# Altium footprint library Gateway PcbLib.PcbLib: 1 footprints
Each footprint in its own frame and in the unit in brackets; x right, y up, seen from the top. Pads: shape width x height; smd on the part's side, far side on the other; paste and mask are expansions set on the pad; w line width, h text height; cw(c..) or ccw(c..) is an arc to the next point about the centre after c.
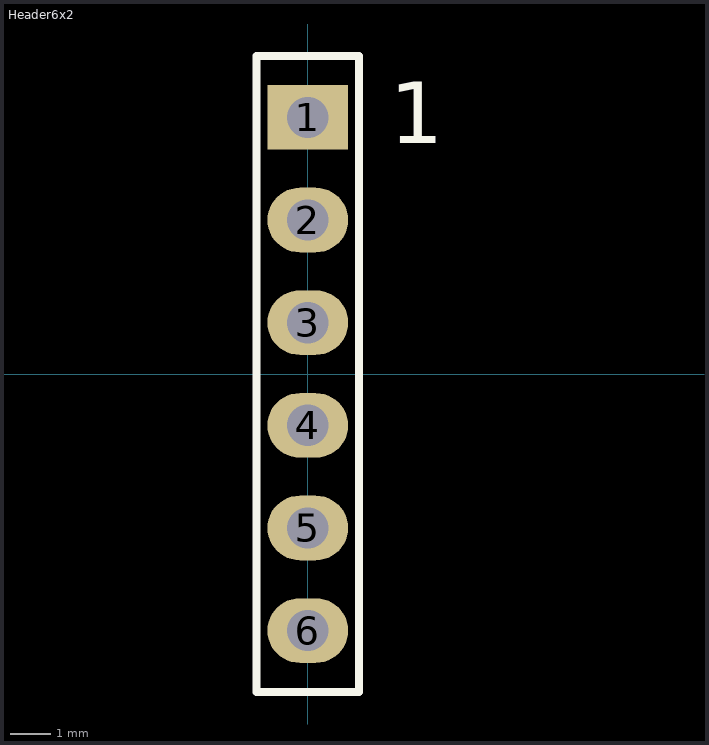
[diagram p0: the footprint, top view; thin cyan lines are the x and y axes]

## Header6x2 [mm]
pads (6):
  rect 2x1.6 hole 1.02: 1(0,6.35)
  oval 2x1.6 hole 1.02: 2(0,3.81) 3(0,1.27) 4(0,-1.27) 5(0,-3.81) 6(0,-6.35)
Top Overlay:
  lines w0.2: -1.27,-7.874 1.27,-7.874 1.27,7.874 -1.27,7.874 -1.27,-7.874
  text "1" at 2.032,5.715 h1.52